# Altium schematic symbol library Components - 22.04.20 - 00.20.SchLib: 1 symbol
Pins are listed as number, name and electrical type; pins without a type are passive.

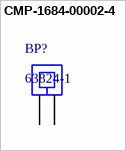
[diagram p0: symbol CMP-1684-00002-4]

## CMP-1684-00002-4
designator BP?, comment 63824-1
Printed Circuit Board Terminal and Disconnect, 2-Pin THD, RoHS, Tape and Reel; Manufacturer: TE Connectivity; Colour: Silver; Contact Material: Brass; ComponentLink2URL: http://www.te.com/commerce/DocumentDelivery/DDEController?Action=showdoc&DocId=Customer+Drawing%7F63824%7FR%7Fpdf%7FEnglish%7FENG_CD_63824_R_baseFilename.pdf%7F63824-1; ComponentLink1URL: http://www.te.com/; Mounting Technology: Through Hole; Length: 13.63 mm; RoHSCompliant: True; ComponentLink1Description: Manufacturer URL; PackageReference: 63824-1; PackageDescription: 2-Pin Through Hole Device, Body 7.92 x 3.08 mm, Pitch 5.08 mm; Package Quantity: 10000; REACH SVHC: Unknown; ComponentLink2Description: Datasheet; DatasheetVersion: Rev. R, 06/2013; Contact Plating: Tin; Packaging: Tape and Reel
footprint TECO-63824-1_V (THD, 2-Leads, Body 7.92x3.08mm, Pitch 5.08mm)
pins: 1, 2